# Altium footprint library 1000uF_10V SMD.PcbLib: 2 footprints
Each footprint in its own frame and in the unit in brackets; x right, y up, seen from the top. Pads: shape width x height; smd on the part's side, far side on the other; paste and mask are expansions set on the pad; w line width, h text height; cw(c..) or ccw(c..) is an arc to the next point about the centre after c.
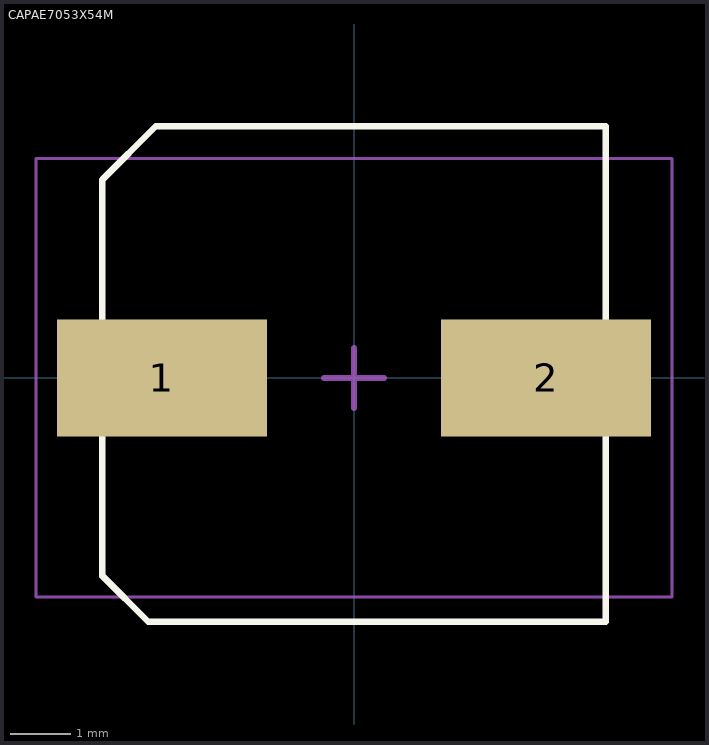
[diagram p0: the footprints below, top view; thin cyan lines are the x and y axes]

## CAPAE7053X54M [mm] "Aluminum Electrolytic Capacitor, Body 5.30x5.30x5.40mm, IPC Low Density"
height 5.4
pads (2):
  rect 3.5x1.95 smd: 1(-3.2,0) 2(3.2,0)
Top Overlay:
  lines w0.108: -4.191,-3.302 -4.191,0.381 -4.191,3.302 -3.302,4.191 4.191,4.191 4.191,-4.064 -3.429,-4.064 -4.191,-3.302
Mechanical 15:
  lines w0.05: -5.3,-3.65 5.3,-3.65 5.3,3.65 -5.3,3.65 -5.3,-3.65
  lines w0.1: -0.5,0 0.5,0 ; 0,-0.5 0,0.5
3D body: height 16.9, standoff 9.95, extent -4.572,-4.064 4.428,4.236

## CAPAE110103X100M [mm] "Aluminum Electrolytic Capacitor, Body 10.30x10.30x10.00mm, IPC Low Density"
height 10